# EAGLE library part BQ77904 (library BQ25504)
A battery protection chip with OV/UV/OT/UT
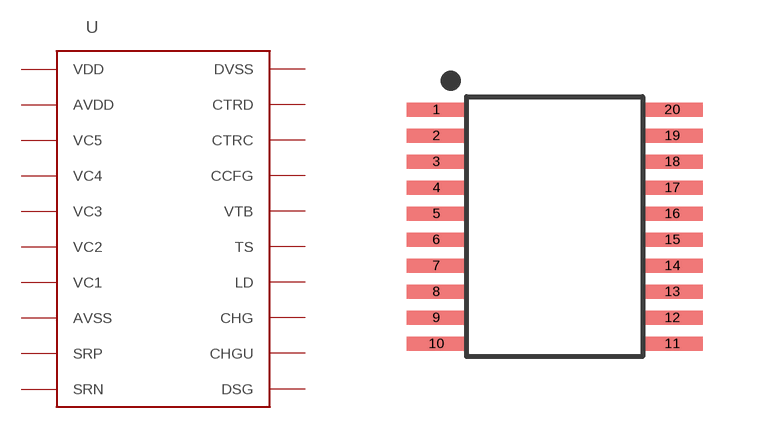
[diagram p65: symbol with the pads of TSSOP-20/6MM; footprint TSSOP-20/6MM]

Designator prefix U

## BQ77904 (DIGIKEY: 296-44599-5-ND; MANUFACTURER: TI; MOUSER: 595-BQ7790503PW; MPN: BQ7790503PW)  [TSSOP-20/6MM]
1  VDD
2  AVDD
3  VC5
4  VC4
5  VC3
6  VC2
7  VC1
8  AVSS
9  SRP
10  SRN
11  DSG
12  CHGU
13  CHG
14  LD
15  TS
16  VTB
17  CCFG
18  CTRC
19  CTRD
20  DVSS

## Footprint TSSOP-20/6MM (pad centres in mm)
smd 1.5 x 0.35: 1 -2.95,2.925; 2 -2.95,2.275; 3 -2.95,1.625; 4 -2.95,0.975; 5 -2.95,0.325; 6 -2.95,-0.325; 7 -2.95,-0.975; 8 -2.95,-1.625; 9 -2.95,-2.275; 10 -2.95,-2.925; 11 2.95,-2.925; 12 2.95,-2.275; 13 2.95,-1.625; 14 2.95,-0.975; 15 2.95,-0.325; 16 2.95,0.325; 17 2.95,0.975; 18 2.95,1.625; 19 2.95,2.275; 20 2.95,2.925